# Altium schematic symbol library lp2985.SchLib: 1 symbol
Pins are listed as number, name and electrical type; pins without a type are passive.

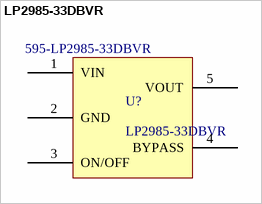
[diagram p0: symbol LP2985-33DBVR]

## LP2985-33DBVR
designator U?  Supplier Part Number 1: 595-LP2985-33DBVR
Supplier 1: Mouser
footprint SOT-23
footprint SOT-23
pins: 1 VIN, 2 GND, 3 ON/OFF, 4 BYPASS, 5 VOUT